# Altium footprint library Capasitor.PcbLib: 1 footprints
Each footprint in its own frame and in the unit in brackets; x right, y up, seen from the top. Pads: shape width x height; smd on the part's side, far side on the other; paste and mask are expansions set on the pad; w line width, h text height; cw(c..) or ccw(c..) is an arc to the next point about the centre after c.
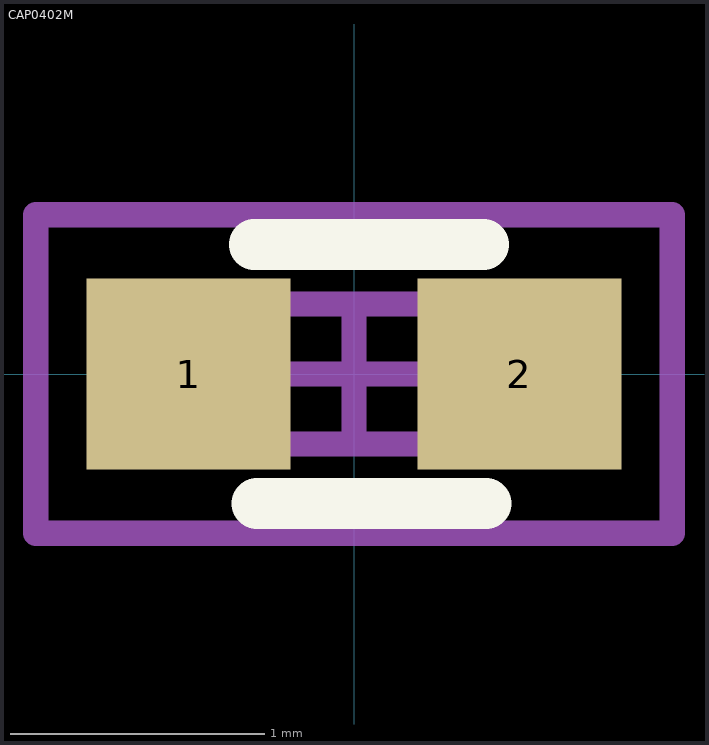
[diagram p0: the footprint, top view; thin cyan lines are the x and y axes]

## CAP0402M [mm] "Chip Capacitor, 2-Leads, Body 1,0x0,5mm, IPC Medium Density"
height 0.55
pads (2):
  rect 0.8x0.75 smd: 1(-0.65,0) 2(0.65,0)
Top Overlay:
  lines w0.2: -0.392,0.508 0.508,0.508 ; -0.381,-0.508 0.519,-0.508
Mechanical 1:
  lines w0.1: -0.525,-0.275 -0.525,0.275 0.525,0.275 0.525,-0.275 -0.525,-0.275
Mechanical 15:
  lines w0.1: -0.275,0 0.275,0 ; 0,-0.275 0,0.275 ; -1.25,-0.625 -1.25,0.625 1.25,0.625 1.25,-0.625 -1.25,-0.625
3D body: height 0.6, standoff 0, extent -0.5,-0.25 0.5,0.25